# EAGLE library part 803-87-012-20-001101 (library SamacSys_Parts)
Preci-Dip 803 Series 2.54mm 12 Way 2 Row Right Angle PCB Socket PCB Mount Board to Board Source: Datasheet <https://componentsearchengine.com/Datasheets/1/803-87-012-20-001101.pdf>
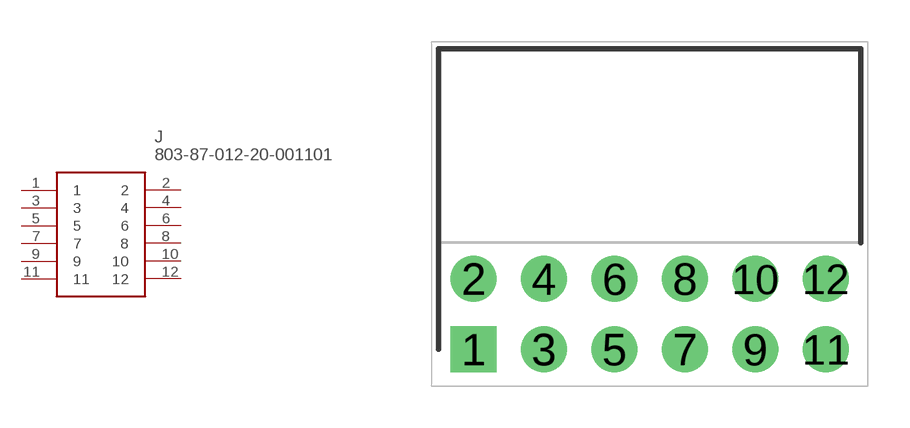
[diagram p105: symbol with the pads of RHDRRA12W62P254_2X6_1524X700X5; footprint RHDRRA12W62P254_2X6_1524X700X5]

Designator prefix J

## 803-87-012-20-001101 (DESCRIPTION: Preci-Dip 803 Series 2.54mm 12 Way 2 Row Right Angle PCB Socket PCB Mount Board to Board; HEIGHT: 5.08mm; MANUFACTURER_NAME: Preci-Dip; MANUFACTURER_PART_NUMBER: 803-87-012-20-001101; MOUSER_PART_NUMBER: 437-8038701220001101; MOUSER_PRICE-STOCK: https://www.mouser.com/Search/Refine.aspx?Keyword=437-8038701220001101)  [RHDRRA12W62P254_2X6_1524X700X5]
1  1
2  2
3  3
4  4
5  5
6  6
7  7
8  8
9  9
10  10
11  11
12  12

## Footprint RHDRRA12W62P254_2X6_1524X700X5 (pad centres in mm)
803-87-012-20-001101
drill 1.1 pad 1.65 square: 1 0,0
drill 1.1 pad 1.65: 2 0,2.54; 3 2.54,0; 4 2.54,2.54; 5 5.08,0; 6 5.08,2.54; 7 7.62,0; 8 7.62,2.54; 9 10.16,0; 10 10.16,2.54; 11 12.7,0; 12 12.7,2.54